# Altium footprint library SC-70-6.PcbLib: 1 footprints
Each footprint in its own frame and in the unit in brackets; x right, y up, seen from the top. Pads: shape width x height; smd on the part's side, far side on the other; paste and mask are expansions set on the pad; w line width, h text height; cw(c..) or ccw(c..) is an arc to the next point about the centre after c.
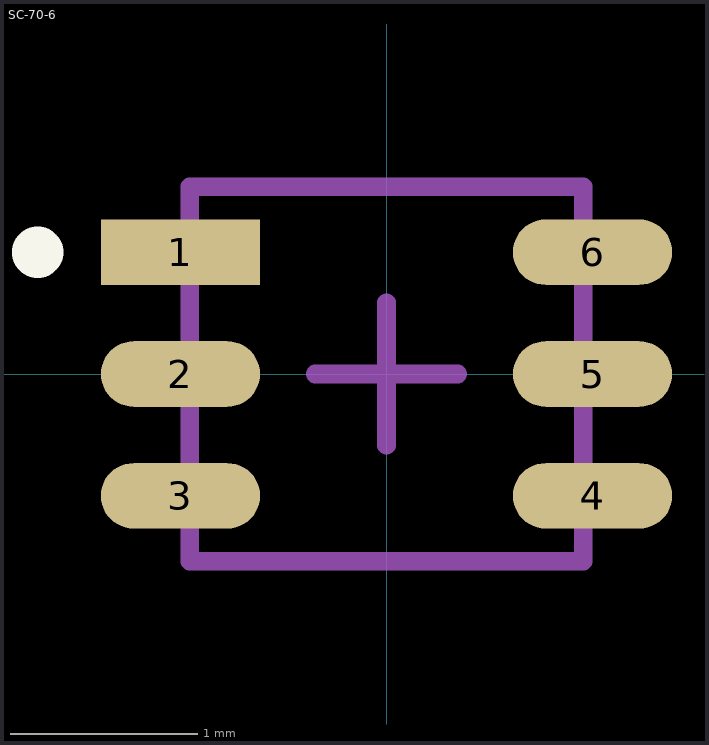
[diagram p0: the footprint, top view; thin cyan lines are the x and y axes]

## SC-70-6 [mm]
pads (6):
  rect 0.85x0.35 smd mask+0.051: 1(-1.1,0.65)
  oval 0.85x0.35 smd mask+0.051: 2(-1.1,0) 3(-1.1,-0.65) 4(1.1,-0.65) 5(1.1,0) 6(1.1,0.65)
Top Overlay:
  circle w0.254: c-1.862,0.65 r0.01
Mechanical 13:
  lines w0.1: -1.05,-1 -1.05,1 1.05,1 1.05,-1 -1.05,-1
Mechanical 15:
  lines w0.1: -0.381,0 0,0 ; 0,0 0,-0.381 0,0 ; 0,0 0.381,0 0,0 ; 0,0 0,0.381 0,0
3D body "SC-70-6.step": height 0.96, standoff 0.01, extent -1.05,-1 1.05,1